# Altium footprint library Misc.PcbLib: 150 footprints (part 4 of 10)
Each footprint in its own frame and in the unit in brackets; x right, y up, seen from the top. Pads: shape width x height; smd on the part's side, far side on the other; paste and mask are expansions set on the pad; w line width, h text height; cw(c..) or ccw(c..) is an arc to the next point about the centre after c.
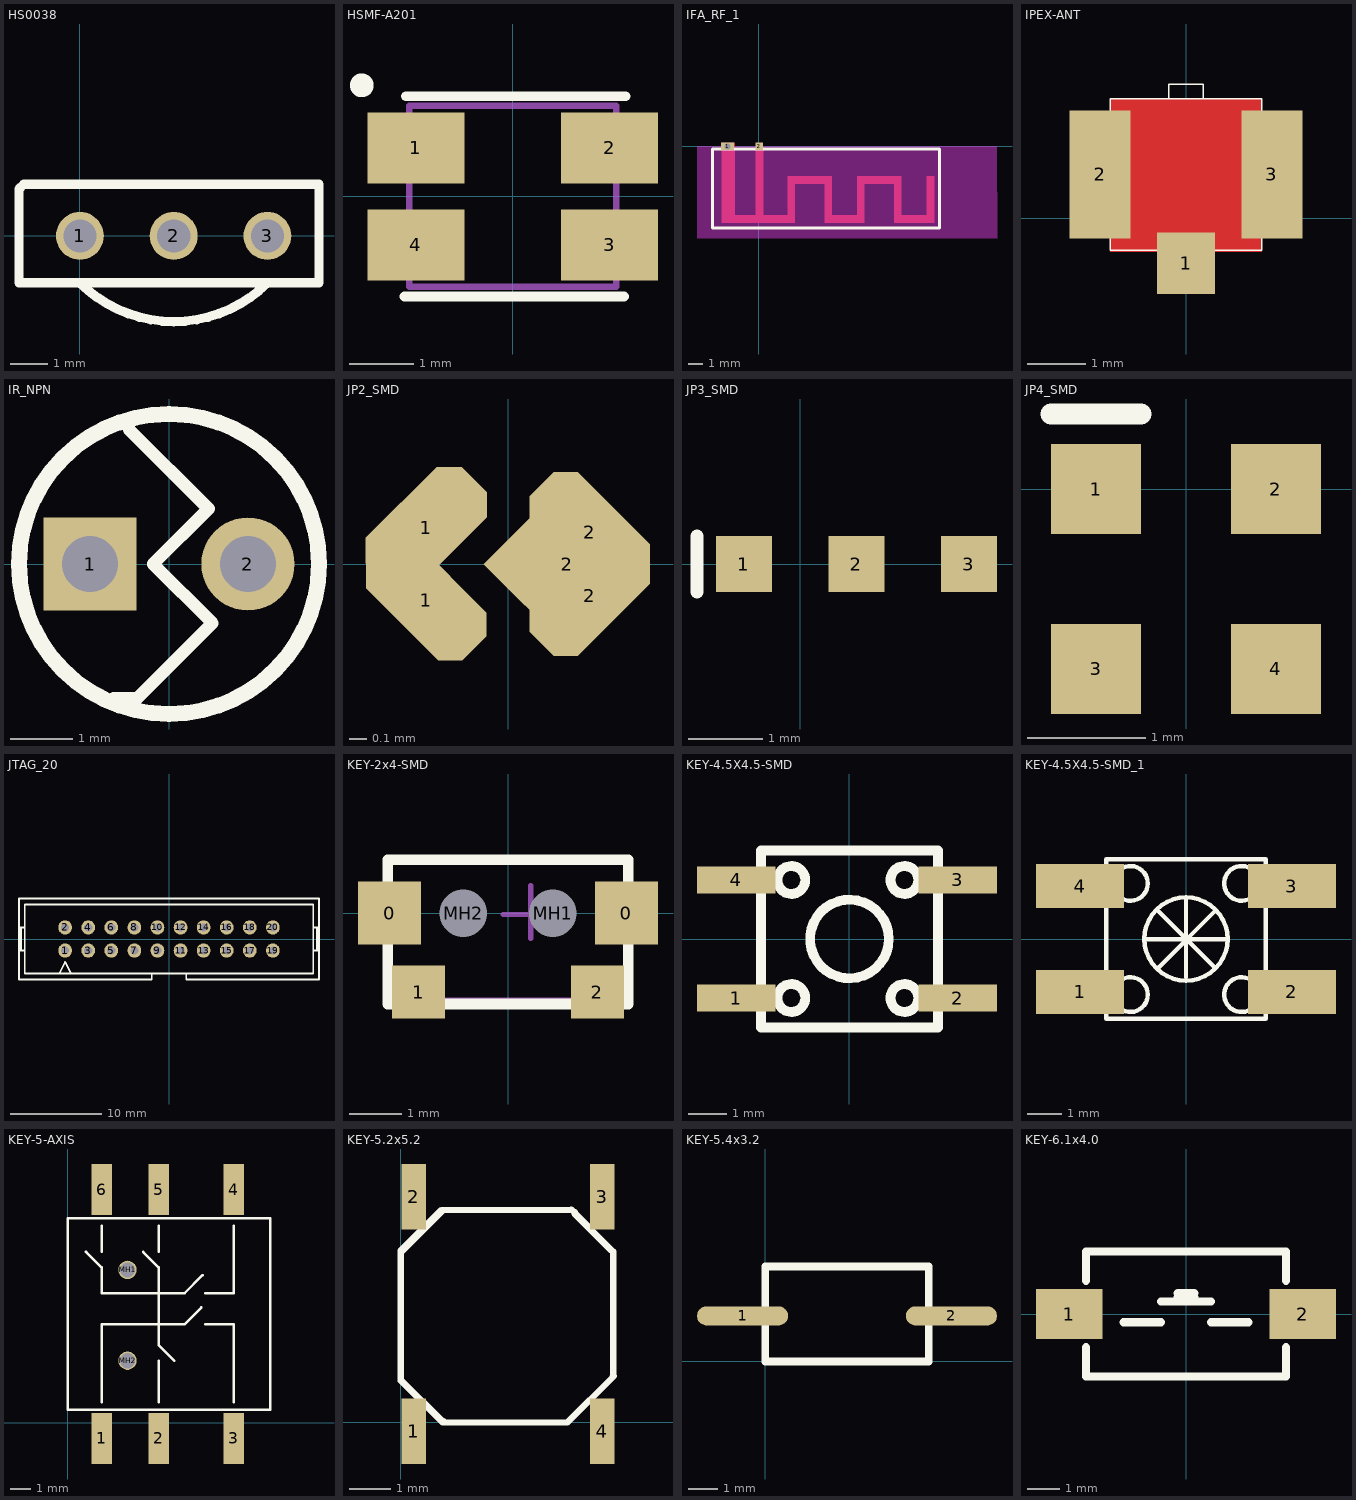
[diagram p3: the footprints below, top view; thin cyan lines are the x and y axes]

## HS0038 [mm]
pads (3):
  round 1.3 hole 0.9: 1(0,0) 2(2.54,0) 3(5.08,0)
Top Overlay:
  lines w0.254: 0,-1.27 ccw(c2.54,1.27) 5.08,-1.27 ; -1.651,-1.27 6.477,-1.27 6.477,1.397 -1.524,1.397 -1.651,1.27 -1.651,-1.27

## HSMF-A201 [mm] "LED"
height 1.2
pads (4):
  rect 1.5x1.1 smd: 1(-1.5,0.75) 2(1.5,0.75) 3(1.5,-0.75) 4(-1.5,-0.75)
Top Overlay:
  circle w0.25: c-2.337,1.719 r0.059
  lines w0.152: -1.676,-1.549 1.724,-1.549 ; -1.651,1.549 1.749,1.549
Mechanical 13:
  lines w0.1: -1.6,-1.4 1.6,-1.4 1.6,1.4 -1.6,1.4 -1.6,-1.4
3D body: height 1.2, standoff 0.1, extent -1.6,-1.4 1.6,1.4

## IFA_RF_1 [mm]
pads (2):
  rect 0.9x0.5 / inner rect 0.9x0.5 / far side oval 0.7x0.5 hole 0.4: 1(-2.1,0)
  rect 0.5x0.5 smd: 2(0.05,0)
Top Layer:
  region: 11.85,-4.651 11.85,-5.15 9.15,-5.15 9.15,-4.651
  region: 7.15,-2.01 7.15,-5.15 6.65,-5.15 6.65,-2.01
  region: 9.65,-2.01 9.65,-5.15 9.15,-5.15 9.15,-2.01
  region: 11.85,-2.01 11.85,-5.15 11.35,-5.15 11.35,-2.01
  region: 9.65,-2.01 9.65,-2.51 6.949,-2.51 6.949,-2.01
  region: 7.15,-4.65 7.15,-5.15 4.449,-5.15 4.449,-4.65
  region: 2.45,-2.01 2.45,-5.15 1.95,-5.15 1.95,-2.01
  region: 4.95,-2.01 4.95,-5.15 4.449,-5.15 4.449,-2.01
  region: 4.95,-2.01 4.95,-2.51 1.95,-2.51 1.95,-2.01
  region: 2.4,-5.15 -2.1,-5.15 -2.1,-4.651 2.4,-4.651
  region: 0.301,-0.092 0.301,-4.9 -0.2,-4.9 -0.2,-0.092
  region: -1.599,0.25 -1.599,-5.15 -2.498,-5.15 -2.498,0.25
Top Overlay:
  lines w0.2: -3.125,-5.525 -3.125,-0.175 12.225,-0.175 12.225,-5.525 -3.125,-5.525
Keep-Out Layer:
  pour cut-out: 16.104,-6.203 16.1,0 -4.166,0 -4.166,-6.203

## IPEX-ANT [mm]
pads (3):
  rect 1x1.05 smd: 1(0,-0.775)
  rect 1.05x2.2 smd: 2(-1.475,0.75) 3(1.475,0.75)
Top Layer:
  pour cut-out: -1.3,2.05 -1.3,-0.575 1.3,-0.575 1.3,2.05
Top Overlay:
  lines w0.025: -0.3,2.05 -0.3,2.3 0.3,2.3 0.3,2.05 ; -1.3,-0.55 1.3,-0.55 1.3,2.05 -1.3,2.05 -1.3,-0.55

## IR_NPN [mm]
pads (2):
  rect 1.5x1.5 hole 0.9: 1(-1.27,0)
  round 1.5 hole 0.9: 2(1.27,0)
Top Overlay:
  circle w0.254: c0,0 r2.413
  lines w0.203: -0.889,-2.159 -0.508,-2.159 0.699,-0.953 -0.254,0 0.635,0.889 -0.635,2.159

## JP2_SMD [mil]
pads (5):
  oct 15x30 smd rot 45: 1(-18,-8) 2(18,7)
  oct 15.75x30 smd rot 135: 1(-18,8)
  rect 26x26 smd rot 45: 2(13,0)
  oct 15x30 smd rot 135: 2(18,-7)

## JP3_SMD [mil]
pads (3):
  rect 30x30 smd: 1(-30,0) 2(30,0) 3(90,0)
Top Overlay:
  lines w7: -55,-15 -55,15

## JP4_SMD [mil]
pads (4):
  rect 30x30 smd: 1(-30,0) 2(30,0) 3(-30,-60) 4(30,-60)
Top Overlay:
  lines w7: -45,25 -15,25

## JTAG_20 [mm]
pads (20):
  oval 1.5x1.575 hole 0.9: 1(-11.43,-1.27) 2(-11.43,1.27) 3(-8.89,-1.27) 4(-8.89,1.27) 5(-6.35,-1.27) 6(-6.35,1.27) 7(-3.81,-1.27) 8(-3.81,1.27) 9(-1.27,-1.27) 10(-1.27,1.27) 11(1.27,-1.27) 12(1.27,1.27) 13(3.81,-1.27) 14(3.81,1.27) 15(6.35,-1.27) 16(6.35,1.27) 17(8.89,-1.27) 18(8.89,1.27) 19(11.43,-1.27) 20(11.43,1.27)
Top Overlay:
  lines w0.203: -16.51,-1.27 -15.875,-1.27 ; -16.51,1.27 -15.875,1.27 ; -16.298,-1.27 -16.298,1.27 ; -12.065,-3.81 -11.43,-2.54 -10.795,-3.81 ; -8.625,-4.445 -1.905,-4.445 -1.905,-3.81 ; -8.255,-4.445 -16.51,-4.445 -16.51,4.445 16.51,4.445 16.51,-4.445 8.255,-4.445 1.905,-4.445 1.905,-3.81 ; 15.875,-1.27 16.51,-1.27 ; 15.875,1.27 16.51,1.27 ; 16.298,-1.27 16.298,1.27 ; -1.905,-3.81 1.905,-3.81 ; -1.905,-3.81 -15.875,-3.81 -15.875,3.81 15.875,3.81 15.875,-3.81 1.905,-3.81

## KEY-2x4-SMD [mm] "6.8MM,2.8MM,SMD"
pads (6):
  rect 1.2x1.2 smd: 0(-2.25,0) 0(2.25,0)
  rect 1x1 smd: 1(-1.7,-1.5) 2(1.7,-1.5)
  round 0.8 hole 0.9 unplated: MH1(0.85,0) MH2(-0.85,0)
Top Overlay:
  lines w0.2: -2.286,-1.727 -2.286,1.016 ; 2.286,-1.727 2.286,1.016
  lines w0.203: -2.286,-1.727 2.286,-1.727 ; -2.286,1.016 2.286,1.016
Mechanical 13:
  lines w0.1: -2.286,-1.651 -2.286,1.016 2.286,1.016 2.286,-1.651 -2.286,-1.651
Mechanical 15:
  lines w0.1: -0.094,-0.025 0.906,-0.025 ; 0.432,-0.483 0.432,0.517
3D body: height 1.1, standoff 0, extent -2.285,-1.6 2.286,0.94

## KEY-4.5X4.5-SMD [mil]
height 200
pads (4):
  rect 80x27.56 smd: 1(-115,-60) 2(110,-60) 3(110,60) 4(-115,60)
Top Overlay:
  circle w10: c0,0 r40
  circle w10: c-59.14,60 r14.14
  circle w10: c55.86,60 r14.14
  circle w10: c-59.14,-60 r14.14
  circle w10: c55.86,-60 r14.14
  lines w10: -90,-90 -90,90 90,90 90,-90 -90,-90

## KEY-4.5X4.5-SMD_1 [mil]
pads (4):
  rect 100x50 smd: 1(-120,-60) 2(120,-60) 3(120,60) 4(-120,60)
Top Overlay:
  circle w5: c62.99,-62.99 r19.68
  circle w5: c-62.99,-62.99 r19.68
  circle w5: c-62.99,62.99 r19.68
  circle w5: c62.99,62.99 r19.68
  circle w5: c0,0 r47.24
  lines w5: -44.36,-0.25 44.79,-0.25 ; -30.92,31.14 31.51,-31.29 ; -30.68,-31.89 31.85,30.64 ; -0.03,-43.19 -0.03,44.21 ; -90.55,-90.55 -90.55,90.55 90.55,90.55 90.55,-90.55 -90.55,-90.55

## KEY-5-AXIS [mm] "KEY 5.2*5.2mm"
height 1.3
pads (8):
  rect 1x2.5 smd: 1(1.651,-0.762) 2(4.445,-0.762) 3(8.128,-0.762) 4(8.128,11.43) 5(4.445,11.43) 6(1.651,11.43)
  round 0.9 hole 0.75 unplated: MH1(2.921,7.493) MH2(2.921,3.048)
Top Overlay:
  lines w0.127: 0.889,8.382 1.651,7.62 1.651,6.35 3.937,6.35 5.207,6.35 5.715,6.35 6.604,7.239 ; 1.651,1.016 1.651,4.191 1.651,4.826 5.715,4.826 6.54,5.651 ; 1.651,8.382 1.651,9.652 ; 3.683,8.382 4.445,7.62 4.445,4.826 4.445,3.81 5.207,3.048 ; 4.445,1.016 4.445,3.048 ; 4.445,8.382 4.445,9.652 ; 6.731,4.826 8.128,4.826 8.128,1.016 ; 6.731,6.35 8.128,6.35 8.128,9.652 ; 0,0.635 9.906,0.635 9.906,10.033 0,10.033 0,0.635

## KEY-5.2x5.2 [mm] "KEY 5.2*5.2mm"
height 1.3
pads (4):
  rect 0.6x1.6 smd: 1(0.315,-0.214) 2(0.315,5.501) 3(4.912,5.501) 4(4.912,-0.214)
Top Overlay:
  lines w0.152: 0.025,1.016 1.016,0.025 1.041,0.025 ; 0.025,4.166 1.016,5.156 ; 4.115,0.051 5.156,1.092 ; 4.242,5.131 4.242,5.08 5.131,4.191 ; 0,1.016 0,4.191 0.991,5.182 4.14,5.182 4.153,5.194 5.182,4.166 5.182,1.143 5.194,1.13 4.064,0 1.016,0 0,1.016

## KEY-5.4x3.2 [mil] "5.4*3.2mm"
height 78.74
pads (2):
  oval 120x25 smd: 1(-30,60) 2(245,60)
Top Overlay:
  lines w10: 0,0 215,0 215,125 0,125 0,0
3D body: height 62.99, standoff 0, extent 5,5 210,119

## KEY-6.1x4.0 [mil]
height 200
pads (2):
  rect 80x60 smd: 1(-140,0) 2(140,0)
Top Overlay:
  lines w10: -120,-40 -120,-75 120,-75 120,-40 ; -120,40 -120,75 120,75 120,40 ; -75,-10 -30,-10 ; -30,15 30,15 ; -10,20 10,20 ; -10,25 10,25 ; 30,-10 75,-10